# EAGLE library part MOTEINO (library Moteino)
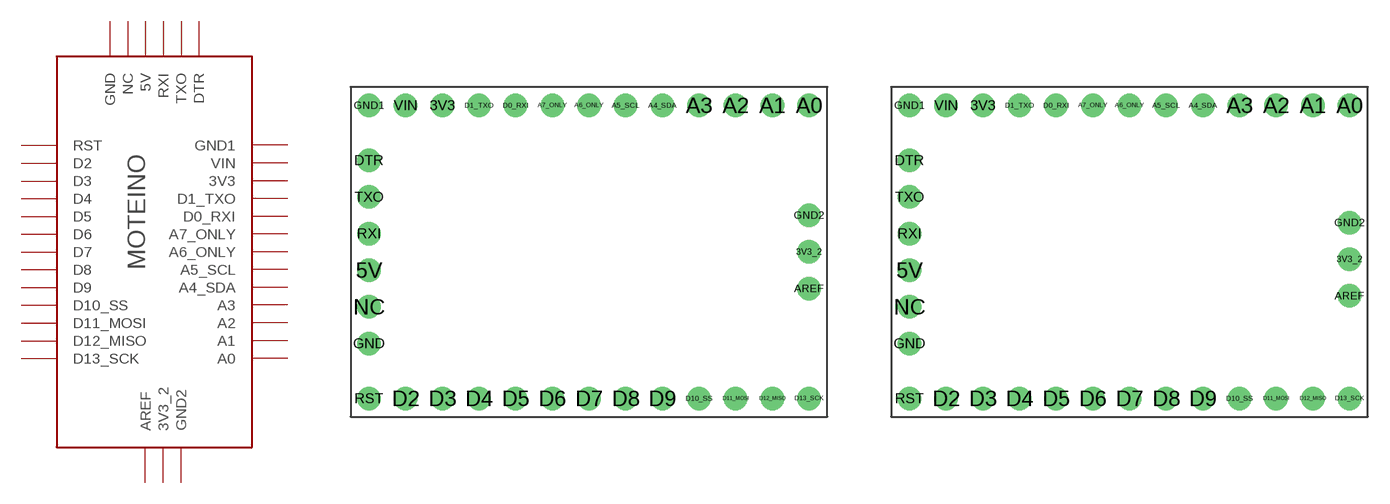
[diagram p0: symbol with the pads of MOTEINO_R4; footprints MOTEINO_R4, MOTEINO_R6]

Designator prefix -

## MOTEINOR4  [MOTEINO_R4]
3V3  3V3
3V3_2  3V3_2
5V  5V
A0  A0
A1  A1
A2  A2
A3  A3
A4_SDA  A4_SDA
A5_SCL  A5_SCL
A6_ONLY  A6_ONLY
A7_ONLY  A7_ONLY
AREF  AREF
D0_RXI  D0_RXI
D1_TXO  D1_TXO
D2  D2
D3  D3
D4  D4
D5  D5
D6  D6
D7  D7
D8  D8
D9  D9
D10_SS  D10_SS
D11_MOSI  D11_MOSI
D12_MISO  D12_MISO
D13_SCK  D13_SCK
DTR  DTR
GND  GND
GND1  GND1
GND2  GND2
NC  NC
RST  RST
RXI  RXI
TXO  TXO
VIN  VIN

## MOTEINOR6  [MOTEINO_R6]
Pads as for MOTEINO_R4

## Footprint MOTEINO_R4 (pad centres in mm)
drill 1.016 pad 1.626: 3V3 6.35,21.59; 3V3_2 31.75,11.43; 5V 1.27,10.16; A0 31.75,21.59; A1 29.21,21.59; A2 26.67,21.59; A3 24.13,21.59; A4_SDA 21.59,21.59; A5_SCL 19.05,21.59; A6_ONLY 16.51,21.59; A7_ONLY 13.97,21.59; AREF 31.75,8.89; D0_RXI 11.43,21.59; D1_TXO 8.89,21.59; D2 3.81,1.27; D3 6.35,1.27; D4 8.89,1.27; D5 11.43,1.27; D6 13.97,1.27; D7 16.51,1.27; D8 19.05,1.27; D9 21.59,1.27; D10_SS 24.13,1.27; D11_MOSI 26.67,1.27; D12_MISO 29.21,1.27; D13_SCK 31.75,1.27; DTR 1.27,17.78; GND 1.27,5.08; GND1 1.27,21.59; GND2 31.75,13.97; NC 1.27,7.62; RST 1.27,1.27; RXI 1.27,12.7; TXO 1.27,15.24; VIN 3.81,21.59

## Footprint MOTEINO_R6 (pad centres in mm)
drill 1.016 pad 1.626: 3V3 6.35,21.59; 3V3_2 31.75,10.922; 5V 1.27,10.16; A0 31.75,21.59; A1 29.21,21.59; A2 26.67,21.59; A3 24.13,21.59; A4_SDA 21.59,21.59; A5_SCL 19.05,21.59; A6_ONLY 16.51,21.59; A7_ONLY 13.97,21.59; AREF 31.75,8.382; D0_RXI 11.43,21.59; D1_TXO 8.89,21.59; D2 3.81,1.27; D3 6.35,1.27; D4 8.89,1.27; D5 11.43,1.27; D6 13.97,1.27; D7 16.51,1.27; D8 19.05,1.27; D9 21.59,1.27; D10_SS 24.13,1.27; D11_MOSI 26.67,1.27; D12_MISO 29.21,1.27; D13_SCK 31.75,1.27; DTR 1.27,17.78; GND 1.27,5.08; GND1 1.27,21.59; GND2 31.75,13.462; NC 1.27,7.62; RST 1.27,1.27; RXI 1.27,12.7; TXO 1.27,15.24; VIN 3.81,21.59